# Altium footprint library CSD18504Q5A.PcbLib: 1 footprints
Each footprint in its own frame and in the unit in brackets; x right, y up, seen from the top. Pads: shape width x height; smd on the part's side, far side on the other; paste and mask are expansions set on the pad; w line width, h text height; cw(c..) or ccw(c..) is an arc to the next point about the centre after c.
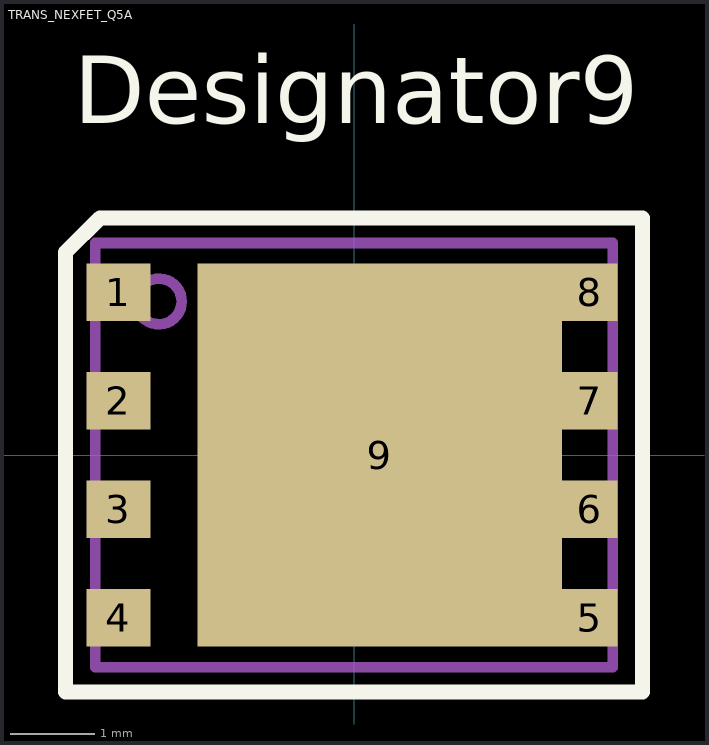
[diagram p0: the footprint, top view; thin cyan lines are the x and y axes]

## TRANS_NEXFET_Q5A [mm]
pads (9):
  rect 0.75x0.675 all layers, no hole: 1(-2.776,1.917) 2(-2.776,0.639) 3(-2.776,-0.639) 4(-2.776,-1.917)
  rect 0.655x0.675 all layers, no hole: 5(2.776,-1.917) 6(2.776,-0.639) 7(2.776,0.639) 8(2.776,1.917)
  rect 4.295x4.51 all layers, no hole: 9(0.301,0)
Top Overlay:
  lines w0.178: -3.4,-2.795 -3.4,0 -3.4,2.39 -2.995,2.795 0,2.795 3.4,2.795 3.4,0 3.4,-2.795 0,-2.795 -3.4,-2.795
  text "Designator9" at -3.302,3.912 h0.79
Outline:
  circle w0.127: c-2.3,1.81 r0.269
  lines w0.127: -3.05,-2.5 -3.05,2.5 3.05,2.5 3.05,-2.5 -3.05,-2.5
  text ".Designator" at -1.529,-0.508 h0.79
Courtyard Bottom:
  circle w0.127: c-2.3,1.81 r0.269
  lines w0.127: -3.05,-2.5 -3.05,2.5 3.05,2.5 3.05,-2.5 -3.05,-2.5
  text ".Designator" at -1.529,-0.508 h0.79